# Altium footprint library Tray2Mobo.PcbLib: 18 footprints (part 1 of 2)
Each footprint in its own frame and in the unit in brackets; x right, y up, seen from the top. Pads: shape width x height; smd on the part's side, far side on the other; paste and mask are expansions set on the pad; w line width, h text height; cw(c..) or ccw(c..) is an arc to the next point about the centre after c.
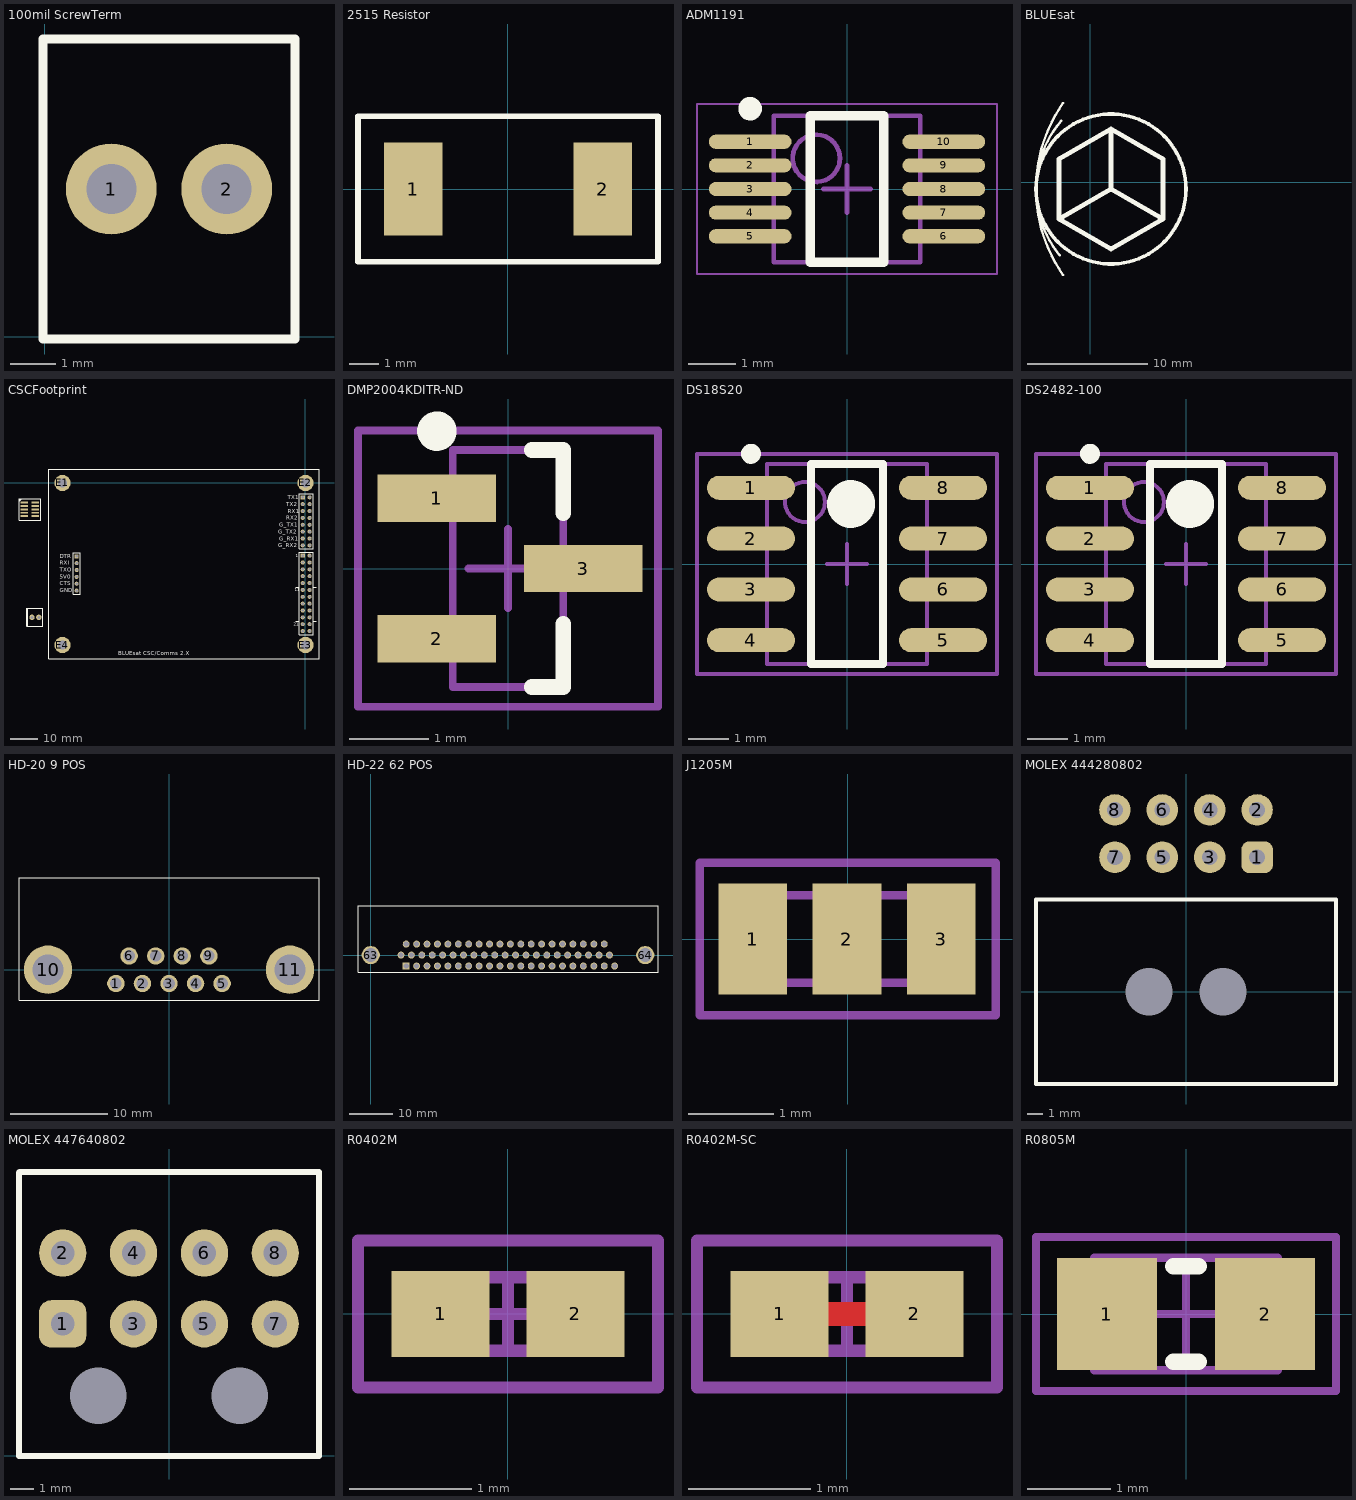
[diagram p0: the footprints below, top view; thin cyan lines are the x and y axes]

## 100mil ScrewTerm [mm]
pads (2):
  round 2 hole 1.1: 1(1.46,3.25) 2(4,3.25)
Top Overlay:
  lines w0.2: -0.04,-0.05 5.5,-0.05 5.5,6.55 -0.04,6.55 -0.04,-0.05
3D body: height 10, standoff -3.4, extent -0.04,0 5.5,6.5

## 2515 Resistor [mm]
pads (2):
  rect 2x3.2 smd: 1(-3.25,0) 2(3.25,0)
Top Overlay:
  lines w0.2: -5.15,-2.5 -5.15,0 -5.15,2.5 5.15,2.5 5.15,-2.5 -5.15,-2.5

## ADM1191 [mm]
pads (10):
  oval 1.75x0.3 smd: 1(-2.05,1) 2(-2.05,0.5) 3(-2.05,0) 4(-2.05,-0.5) 5(-2.05,-1) 6(2.05,-1) 7(2.05,-0.5) 8(2.05,0) 9(2.05,0.5) 10(2.05,1)
Top Overlay:
  circle w0.25: c-2.05,1.7 r0.125
  lines w0.2: -0.775,-1.55 -0.775,1.55 0.775,1.55 0.775,-1.55 -0.775,-1.55
Mechanical 13:
  circle w0.1: c-0.65,0.65 r0.5
  lines w0.1: -1.55,-1.55 -1.55,1.55 1.55,1.55 1.55,-1.55 -1.55,-1.55
Mechanical 15:
  lines w0.05: -3.175,-1.8 -3.175,1.8 3.175,1.8 3.175,-1.8 -3.175,-1.8
  lines w0.1: -0.5,0 0.5,0 ; 0,-0.5 0,0.5
3D body: height 1.1, standoff 0.05, extent -1.55,-1.55 1.55,1.55

## BLUEsat [mm]
Top Overlay:
  circle w0.3: c1.746,-0.552 r6.25
  lines w0.2: -2.537,-6.079 cw(c4.246,-0.552) -2.415,5.122 ; -2.243,-7.722 cw(c7.996,-0.552) -2.243,6.618
  lines w0.4: -2.584,-3.052 1.746,-0.552 ; -2.584,-3.052 1.746,-5.552 6.076,-3.052 ; -2.584,-3.052 -2.584,1.948 1.746,4.448 ; 1.746,-0.552 1.746,4.448 ; 1.746,-0.552 6.076,-3.052 ; 1.746,4.448 6.076,1.948 6.076,-3.052

## CSCFootprint [mm]
pads (62):
  rect 2.794x0.737 smd: A1(-104.132,-7.21) A2(-100.068,-7.21) A3(-104.132,-8.48) A4(-100.068,-8.48) A5(-104.132,-9.75) A6(-100.068,-9.75) A7(-104.132,-11.02) A8(-100.068,-11.02) A9(-104.132,-12.29) A10(-100.068,-12.29)
  rect 1.5x1.5 hole 0.9: B1(-84.75,-27.15) C1(-1.02,-5.31) D1(-1.02,-26.9)
  round 1.5 hole 0.9: B2(-84.75,-29.69) B3(-84.75,-32.23) B4(-84.75,-34.77) B5(-84.75,-37.31) B6(-84.75,-39.85) C2(1.52,-5.31) C3(-1.02,-7.85) C4(1.52,-7.85) C5(-1.02,-10.39) C6(1.52,-10.39) C7(-1.02,-12.93) C8(1.52,-12.93) C9(-1.02,-15.47) C10(1.52,-15.47) C11(-1.02,-18.01) C12(1.52,-18.01) C13(-1.02,-20.55) C14(1.52,-20.55) C15(-1.02,-23.09) C16(1.52,-23.09) D2(1.52,-26.9) D3(-1.02,-29.44) D4(1.52,-29.44) D5(-1.02,-31.98) D6(1.52,-31.98) D7(-1.02,-34.52) D8(1.52,-34.52) D9(-1.02,-37.06) D10(1.52,-37.06) D11(-1.02,-39.6) D12(1.52,-39.6) D13(-1.02,-42.14) D14(1.52,-42.14) D15(-1.02,-44.68) D16(1.52,-44.68) D17(-1.02,-47.22) D18(1.52,-47.22) D19(-1.02,-49.76) D20(1.52,-49.76) D21(-1.02,-52.3) D22(1.52,-52.3) D23(-1.02,-54.84) D24(1.52,-54.84)
  round 6 hole 3.2: E1(-90,0) E2(0,0) E3(0,-60) E4(-90,-60)
  round 2 hole 1.1: F1(-101.29,-49.75) F2(-98.75,-49.75)
Top Overlay:
  region: -105.1,-5.75 -106.1,-6.75 -106.1,-5.75
  lines w0.1: -106.1,-6.75 -105.1,-5.75 ; -106.1,-13.75 -98.1,-13.75 -98.1,-5.75 -106.1,-5.75 -106.1,-13.75
  lines w0.2: -102.975,-53.05 -102.975,-46.45 ; -102.375,-46.45 -103.15,-46.45 -103.15,-53.05 -102.79,-53.05 ; -2.29,-25.635 2.79,-25.635 ; -2.29,-25.63 -2.29,-56.11 2.79,-56.11 2.79,-25.63 ; -102.79,-53.05 -97.25,-53.05 -97.25,-46.45 -102.79,-46.45 -102.79,-53.05 ; -95,-65 5,-65 5,5 -95,5 -95,-65 ; -86.02,-41.12 -86.02,-25.88 -83.48,-25.88 -83.48,-41.12 -86.02,-41.12 ; -2.29,-24.36 -2.29,-4.04 2.79,-4.04 2.79,-24.36 -2.29,-24.36
  lines w0.254: -3.56,-51.284 -2.29,-51.284 ; -3.56,-38.584 -2.29,-38.584 ; 2.79,-51.284 4.06,-51.284 ; 2.79,-38.584 4.06,-38.584
  text "TX1" at -6.608,-6.072 h1.52
  text "TX2" at -7.116,-8.612 h1.52
  text "RX1" at -6.608,-11.152 h1.52
  text "RX2" at -7.116,-13.692 h1.52
  text "G_TX1" at -9.656,-16.232 h1.52
  text "G_TX2" at -10.164,-18.772 h1.52
  text "G_RX1" at -9.656,-21.312 h1.52
  text "G_RX2" at -10.164,-23.852 h1.52
  text "1" at -3.56,-27.408 h1.02
  text "11" at -4.068,-40.108 h1.02
  text "21" at -4.322,-52.808 h1.02
  text "BLUEsat CSC/Comms 2.X" at -69.3,-63.825 h1.52
  text "5V0" at -90.965,-35.405 h1.52
  text "CTS" at -90.965,-37.945 h1.52
  text "GND" at -90.965,-40.485 h1.52
  text "DTR" at -90.965,-27.785 h1.52
  text "RXI" at -90.965,-30.325 h1.52
  text "TXO" at -90.965,-32.865 h1.52
3D body: height 10, standoff -3.4, extent -102.79,-53 -97.25,-46.5
3D body: height 5.96, standoff -0.01, extent -105.021,-12.925 -99.179,-6.575

## DMP2004KDITR-ND [mm] "SOT23, 3-Leads, Body 3.0x2.5mm (max), Pitch 0.89mm, IPC Medium Density"
height 1.2
pads (3):
  rect 1.5x0.6 smd: 1(-0.9,0.89) 2(-0.9,-0.89) 3(0.951,0)
Top Overlay:
  circle w0.25: c-0.9,1.74 r0.125
  lines w0.2: 0.3,-1.5 0.7,-1.5 0.7,-0.7 ; 0.3,1.5 0.7,1.5 0.7,0.7
Mechanical 13:
  lines w0.1: -0.7,-1.5 -0.7,1.5 0.7,1.5 0.7,-1.5 -0.7,-1.5
Mechanical 15:
  lines w0.1: -0.5,0 0.5,0 ; 0,-0.5 0,0.5 ; -1.9,-1.75 -1.9,1.75 1.9,1.75 1.9,-1.75 -1.9,-1.75
3D body: height 1.2, standoff 0.01, extent -0.7,-1.5 0.7,1.5

## DS18S20 [mm] "SOIC, 8-Leads, Body 5.0x4.0mm (max), Pitch 1.27mm, IPC Medium Density"
height 1.75
pads (8):
  oval 2.2x0.6 smd: 1(-2.4,1.905) 2(-2.4,0.635) 3(-2.4,-0.635) 4(-2.4,-1.905) 5(2.4,-1.905) 6(2.4,-0.635) 7(2.4,0.635) 8(2.4,1.905)
Top Overlay:
  circle w0.25: c-2.4,2.755 r0.125
  circle w0.6: c0.1,1.5 r0.3
  lines w0.2: -0.9,-2.5 -0.9,2.5 0.9,2.5 0.9,-2.5 -0.9,-2.5
Mechanical 13:
  circle w0.1: c-1.05,1.55 r0.5
  lines w0.1: -2,-2.5 -2,2.5 2,2.5 2,-2.5 -2,-2.5
Mechanical 15:
  lines w0.1: -0.5,0 0.5,0 ; 0,-0.5 0,0.5 ; -3.75,-2.75 -3.75,2.75 3.75,2.75 3.75,-2.75 -3.75,-2.75
3D body: height 1.75, standoff 0.1, extent -2,-2.5 2,2.5

## DS2482-100 [mm] "SOIC, 8-Leads, Body 5.0x4.0mm (max), Pitch 1.27mm, IPC Medium Density"
height 1.75
pads (8):
  oval 2.2x0.6 smd: 1(-2.4,1.905) 2(-2.4,0.635) 3(-2.4,-0.635) 4(-2.4,-1.905) 5(2.4,-1.905) 6(2.4,-0.635) 7(2.4,0.635) 8(2.4,1.905)
Top Overlay:
  circle w0.6: c0.1,1.5 r0.3
  circle w0.25: c-2.4,2.755 r0.125
  lines w0.2: -0.9,-2.5 0.9,-2.5 0.9,2.5 -0.9,2.5 -0.9,-2.5
Mechanical 13:
  circle w0.1: c-1.05,1.55 r0.5
  lines w0.1: -2,-2.5 2,-2.5 2,2.5 -2,2.5 -2,-2.5
Mechanical 15:
  lines w0.1: -0.5,0 0.5,0 ; 0,-0.5 0,0.5 ; -3.75,-2.75 3.75,-2.75 3.75,2.75 -3.75,2.75 -3.75,-2.75
3D body: height 1.75, standoff 0.1, extent -2,-2.5 2,2.5

## HD-20 9 POS [mm]
pads (11):
  round 1.8 hole 1.19: 1(-5.486,-1.422) 2(-2.743,-1.422) 3(0,-1.422) 4(2.743,-1.422) 5(5.486,-1.422) 6(-4.115,1.422) 7(-1.372,1.422) 8(1.372,1.422) 9(4.115,1.422)
  round 5 hole 3.18: 10(-12.497,0) 11(12.497,0)
Top Overlay:
  lines w0.1: -15.494,-3.175 -15.494,9.525 15.494,9.525 15.494,-3.175 -15.494,-3.175
3D body: height 12.55, standoff -3.56, extent -15.519,-3.175 15.519,15.72

## HD-22 62 POS [mm]
pads (64):
  rect 1.6x1.6 hole 1.19: 1(8.2,-2.54)
  round 1.6 hole 1.19: 2(10.61,-2.54) 3(13.02,-2.54) 4(15.43,-2.54) 5(17.84,-2.54) 6(20.25,-2.54) 7(22.66,-2.54) 8(25.07,-2.54) 9(27.48,-2.54) 10(29.89,-2.54) 11(32.3,-2.54) 12(34.71,-2.54) 13(37.12,-2.54) 14(39.53,-2.54) 15(41.94,-2.54) 16(44.35,-2.54) 17(46.76,-2.54) 18(49.17,-2.54) 19(51.61,-2.54) 20(54.02,-2.54) 21(56.43,-2.54) 22(6.99,0) 23(9.4,0) 24(11.81,0) 25(14.22,0) 26(16.63,0) 27(19.04,0) 28(21.45,0) 29(23.86,0) 30(26.27,0) 31(28.68,0) 32(31.09,0) 33(33.5,0) 34(35.91,0) 35(38.32,0) 36(40.73,0) 37(43.14,0) 38(45.55,0) 39(47.96,0) 40(50.37,0) 41(52.81,0) 42(55.22,0) 43(8.2,2.54) 44(10.61,2.54) 45(13.02,2.54) 46(15.43,2.54) 47(17.84,2.54) 48(20.25,2.54) 49(22.66,2.54) 50(25.07,2.54) 51(27.48,2.54) 52(29.89,2.54) 53(32.3,2.54) 54(34.71,2.54) 55(37.12,2.54) 56(39.53,2.54) 57(41.94,2.54) 58(44.35,2.54) 59(46.76,2.54) 60(49.17,2.54) 61(51.61,2.54) 62(54.02,2.54)
  round 4.2 hole 3.18: 63(0,0) 64(63.5,0)
Top Overlay:
  lines w0.254: -2.95,-4 66.45,-4 66.45,11.43 -2.95,11.43 -2.95,-4
3D body: height 12.45, standoff -4.05, extent -2.925,-3.6 66.475,17.36

## J1205M [mm] "Chip Resistor, 2-Leads, Body 1.0x0.5mm, IPC Medium Density"
height 0.6
pads (3):
  rect 0.8x1.3 smd: 1(-1.109,0) 2(-0.009,0) 3(1.091,0)
Top Solder:
  rectangle: -1.6,-0.737 1.575,0.737
Mechanical 13:
  lines w0.1: -1.321,-0.508 -1.321,0.508 1.346,0.508 1.346,-0.508 -1.321,-0.508
Mechanical 15:
  lines w0.1: -1.727,-0.889 -1.727,0.889 1.727,0.889 1.727,-0.889 -1.727,-0.889
3D body: height 0.6, standoff 0, extent -1.321,-0.508 1.346,0.508

## MOLEX 444280802 [mm] "B2B RA Header"
height 11.6
pads (10):
  rrect50% 2x2 hole 1: 1(4.5,8.509)
  round 2 hole 1: 2(4.5,11.506) 3(1.5,8.509) 4(1.5,11.506) 5(-1.5,8.509) 6(-1.5,11.506) 7(-4.5,8.509) 8(-4.5,11.506)
  round 0 hole 3 unplated: M1(-2.34,0) M2(2.34,0)
Top Overlay:
  lines w0.254: -9.5,-5.842 -9.5,5.842 9.5,5.842 9.5,-5.842 -9.5,-5.842
Mechanical 15:
  lines w0.025: -9.5,-5.842 9.5,-5.842 9.5,5.842 -9.5,5.842 -9.5,-5.842
  text "EDGE OF BOARD" at -2.794,-6.604 h0.5
3D body: height 11.95, standoff -3.45, extent -9.5,-5.842 9.5,12.868

## MOLEX 447640802 [mm] "B2B RA Receptacle"
height 10.2
pads (10):
  rrect50% 2x2 hole 1: 1(-4.5,5.59)
  round 2 hole 1: 2(-4.5,8.59) 3(-1.5,5.59) 4(-1.5,8.59) 5(1.5,5.59) 6(1.5,8.59) 7(4.5,5.59) 8(4.5,8.59)
  round 0 hole 2.4 unplated: M1(-3,2.54) M2(3,2.54)
Top Overlay:
  lines w0.254: -6.35,0 -6.35,12.003 -6.339,12.014 6.35,12.014 6.35,0 -6.35,0
Mechanical 15:
  lines w0.025: -6.35,0 6.35,0 6.35,12.014 -6.35,12.014 -6.35,0
  text "EDGE OF BOARD" at -3,-0.8 h0.5
3D body: height 10.53, standoff -3.64, extent -6.35,-8.977 6.35,12.004

## R0402M [mm] "Chip Resistor, 2-Leads, Body 1.0x0.5mm, IPC Medium Density"
height 0.6
pads (2):
  rect 0.8x0.7 smd: 1(-0.55,0) 2(0.55,0)
Mechanical 13:
  lines w0.1: -0.55,-0.3 0.55,-0.3 0.55,0.3 -0.55,0.3 -0.55,-0.3
Mechanical 15:
  lines w0.1: -0.3,0 0.3,0 ; 0,-0.3 0,0.3 ; -1.225,-0.6 1.225,-0.6 1.225,0.6 -1.225,0.6 -1.225,-0.6
3D body: height 0.6, standoff 0, extent -0.55,-0.3 0.55,0.3

## R0402M-SC [mm] "Chip Resistor, 2-Leads, Body 1.0x0.5mm, IPC Medium Density"
height 0.6
pads (2):
  rect 0.8x0.7 smd: 1(-0.55,0) 2(0.55,0)
Top Layer:
  lines w0.2: -0.55,0 0.55,0
Mechanical 13:
  lines w0.1: -0.55,-0.3 0.55,-0.3 0.55,0.3 -0.55,0.3 -0.55,-0.3
Mechanical 15:
  lines w0.1: -0.3,0 0.3,0 ; 0,-0.3 0,0.3 ; -1.225,-0.6 1.225,-0.6 1.225,0.6 -1.225,0.6 -1.225,-0.6
3D body: height 0.6, standoff 0, extent -0.55,-0.3 0.55,0.3

## R0805M [mm] "Chip Resistor, 2-Leads, Body 2.0x1.3mm, IPC Medium Density"
height 0.6
pads (2):
  rect 1.2x1.35 smd: 1(-0.95,0) 2(0.95,0)
Top Overlay:
  lines w0.2: -0.15,-0.575 0.15,-0.575 ; -0.15,0.575 0.15,0.575
Mechanical 13:
  lines w0.1: -1.1,-0.675 -1.1,0.675 1.1,0.675 1.1,-0.675 -1.1,-0.675
Mechanical 15:
  lines w0.1: -0.5,0 0.5,0 ; 0,-0.5 0,0.5 ; -1.8,-0.925 -1.8,0.925 1.8,0.925 1.8,-0.925 -1.8,-0.925
3D body: height 0.6, standoff 0, extent -1.1,-0.675 1.1,0.675